# Altium footprint library RES1225 (Reversed).PcbLib: 1 footprints
Each footprint in its own frame and in the unit in brackets; x right, y up, seen from the top. Pads: shape width x height; smd on the part's side, far side on the other; paste and mask are expansions set on the pad; w line width, h text height; cw(c..) or ccw(c..) is an arc to the next point about the centre after c.
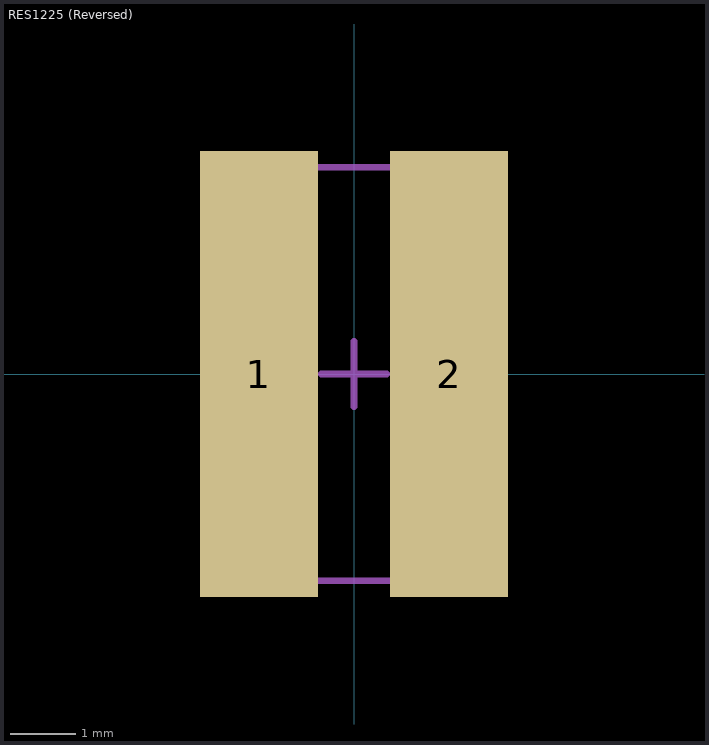
[diagram p0: the footprint, top view; thin cyan lines are the x and y axes]

## RES1225 (Reversed) [mm]
pads (2):
  rect 1.8x6.8 smd mask+0: 1(-1.45,0) 2(1.45,0)
Top Designator:
  text ".Designator" at -7.618,-0.508 h1.52
Mechanical 13:
  lines w0.1: -1.55,-3.15 1.55,-3.15 1.55,3.15 -1.55,3.15 -1.55,-3.15
Mechanical 15:
  lines w0.1: -0.5,0 0,0 ; 0,-0.5 0,0 ; 0,0.5 0,0.25 0,0 ; 0.5,0 0,0
3D body "RES1225 (Reversed).step": height 0.63, standoff 0.01, extent -1.55,-3.15 1.55,3.15